# Altium schematic symbol library KSU213WLFG.SchLib: 1 symbol
Pins are listed as number, name and electrical type; pins without a type are passive.

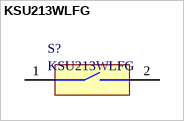
[diagram p0: symbol KSU213WLFG]

## KSU213WLFG
designator S?
Limit Switch SPST-NO Surface Mount
footprint KSU213WLFG
pins: 1, 2